# EAGLE library part AVR-HX128A1 (library SHC)
Olimex Prototyping Board - ATXmega128A1
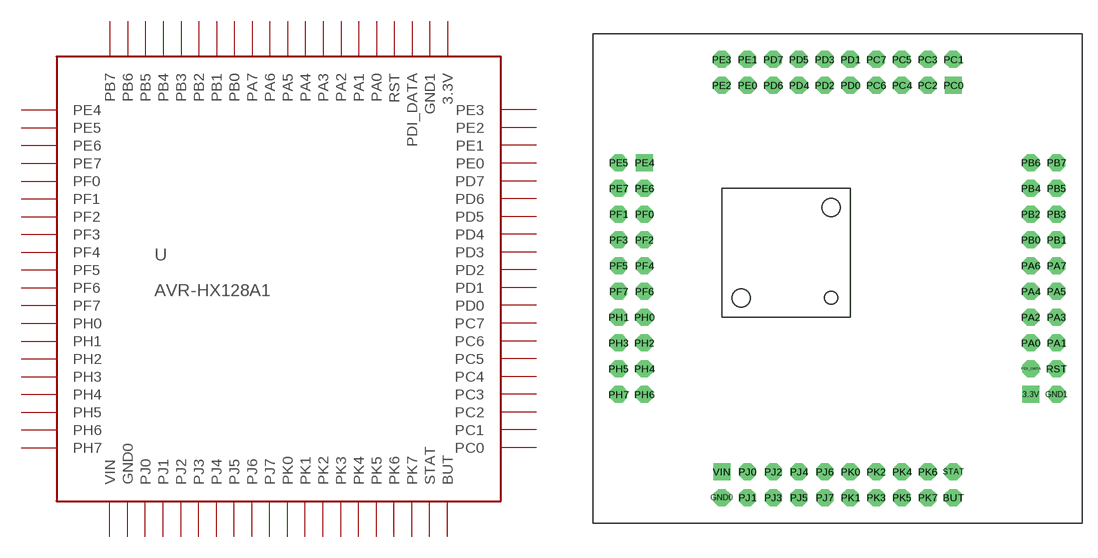
[diagram p43: symbol with the pads of AVR-HX128A1; footprint AVR-HX128A1]

Designator prefix -

## AVR-HX128A1  [AVR-HX128A1]
3.3V  3.3V
BUT  BUT
GND0  GND0
GND1  GND1
PA0  PA0
PA1  PA1
PA2  PA2
PA3  PA3
PA4  PA4
PA5  PA5
PA6  PA6
PA7  PA7
PB0  PB0
PB1  PB1
PB2  PB2
PB3  PB3
PB4  PB4
PB5  PB5
PB6  PB6
PB7  PB7
PC0  PC0
PC1  PC1
PC2  PC2
PC3  PC3
PC4  PC4
PC5  PC5
PC6  PC6
PC7  PC7
PD0  PD0
PD1  PD1
PD2  PD2
PD3  PD3
PD4  PD4
PD5  PD5
PD6  PD6
PD7  PD7
PDI_DATA  PDI_DATA
PE0  PE0
PE1  PE1
PE2  PE2
PE3  PE3
PE4  PE4
PE5  PE5
PE6  PE6
PE7  PE7
PF0  PF0
PF1  PF1
PF2  PF2
PF3  PF3
PF4  PF4
PF5  PF5
PF6  PF6
PF7  PF7
PH0  PH0
PH1  PH1
PH2  PH2
PH3  PH3
PH4  PH4
PH5  PH5
PH6  PH6
PH7  PH7
PJ0  PJ0
PJ1  PJ1
PJ2  PJ2
PJ3  PJ3
PJ4  PJ4
PJ5  PJ5
PJ6  PJ6
PJ7  PJ7
PK0  PK0
PK1  PK1
PK2  PK2
PK3  PK3
PK4  PK4
PK5  PK5
PK6  PK6
PK7  PK7
RST  RST
STAT  STAT
VIN  VIN

## Footprint AVR-HX128A1 (pad centres in mm)
drill 0.8 pad 1.676 square: 3.3V 19.05,-11.43; PC0 11.43,19.05; PE4 -19.05,11.43; VIN -11.43,-19.05
drill 0.8 pad 1.676 octagon: BUT 11.43,-21.59; GND0 -11.43,-21.59; GND1 21.59,-11.43; PA0 19.05,-6.35; PA1 21.59,-6.35; PA2 19.05,-3.81; PA3 21.59,-3.81; PA4 19.05,-1.27; PA5 21.59,-1.27; PA6 19.05,1.27; PA7 21.59,1.27; PB0 19.05,3.81; PB1 21.59,3.81; PB2 19.05,6.35; PB3 21.59,6.35; PB4 19.05,8.89; PB5 21.59,8.89; PB6 19.05,11.43; PB7 21.59,11.43; PC1 11.43,21.59; PC2 8.89,19.05; PC3 8.89,21.59; PC4 6.35,19.05; PC5 6.35,21.59; PC6 3.81,19.05; PC7 3.81,21.59; PD0 1.27,19.05; PD1 1.27,21.59; PD2 -1.27,19.05; PD3 -1.27,21.59; PD4 -3.81,19.05; PD5 -3.81,21.59; PD6 -6.35,19.05; PD7 -6.35,21.59; PDI_DATA 19.05,-8.89; PE0 -8.89,19.05; PE1 -8.89,21.59; PE2 -11.43,19.05; PE3 -11.43,21.59; PE5 -21.59,11.43; PE6 -19.05,8.89; PE7 -21.59,8.89; PF0 -19.05,6.35; PF1 -21.59,6.35; PF2 -19.05,3.81; PF3 -21.59,3.81; PF4 -19.05,1.27; PF5 -21.59,1.27; PF6 -19.05,-1.27; PF7 -21.59,-1.27; PH0 -19.05,-3.81; PH1 -21.59,-3.81; PH2 -19.05,-6.35; PH3 -21.59,-6.35; PH4 -19.05,-8.89; PH5 -21.59,-8.89; PH6 -19.05,-11.43; PH7 -21.59,-11.43; PJ0 -8.89,-19.05; PJ1 -8.89,-21.59; PJ2 -6.35,-19.05; PJ3 -6.35,-21.59; PJ4 -3.81,-19.05; PJ5 -3.81,-21.59; PJ6 -1.27,-19.05; PJ7 -1.27,-21.59; PK0 1.27,-19.05; PK1 1.27,-21.59; PK2 3.81,-19.05; PK3 3.81,-21.59; PK4 6.35,-19.05; PK5 6.35,-21.59; PK6 8.89,-19.05; PK7 8.89,-21.59; RST 21.59,-8.89; STAT 11.43,-19.05